# Altium schematic symbol library Microchip_MCP1826_ADJE_ET.SchLib: 1 symbol
Pins are listed as number, name and electrical type; pins without a type are passive.

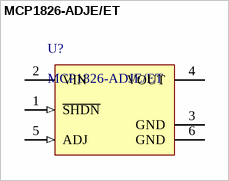
[diagram p0: symbol MCP1826-ADJE/ET]

## MCP1826-ADJE/ET
designator U?
1000 mA, Low Voltage, Low Quiescent Current LDO Regulator, 5-Pin DDPAK, Extended Temperature; PackageVersion: revBB, Aug-2009; DatasheetVersion: revA, Aug-2007; PackageDescription: 5-Lead Plastic (ET) [DDPAK]; PackageReference: DDPAK-ET5; PartNumber: MCP1826-ADJE/ET
footprint DDPAK-ET5_L
footprint DDPAK-ET5_M
footprint DDPAK-ET5_N
pins: 1 ~{SHDN} (in), 2 VIN (power), 3 GND (power), 4 VOUT (power), 5 ADJ (in), 6 GND (power)